# Altium footprint library MGJ3T12.PcbLib: 1 footprints
Each footprint in its own frame and in the unit in brackets; x right, y up, seen from the top. Pads: shape width x height; smd on the part's side, far side on the other; paste and mask are expansions set on the pad; w line width, h text height; cw(c..) or ccw(c..) is an arc to the next point about the centre after c.
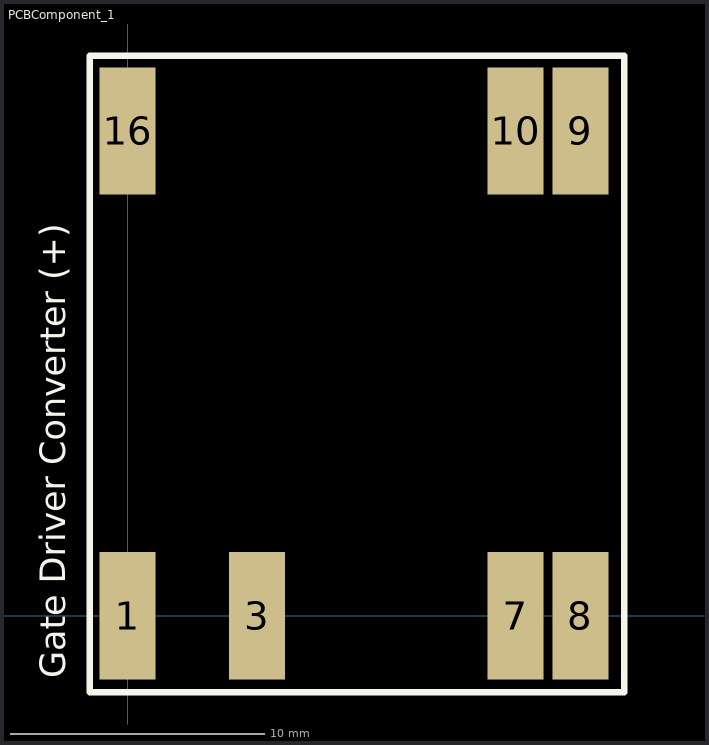
[diagram p0: the footprint, top view; thin cyan lines are the x and y axes]

## PCBComponent_1 [mm]
pads (7):
  rect 2.2x5 smd: 1(0,0) 3(5.08,0) 7(15.24,0) 8(17.78,0) 9(17.78,19.05) 10(15.24,19.05) 16(0,19.05)
Top Overlay:
  lines w0.254: -1.5,-3 -1.5,22 19.5,22 19.5,-3 -1.5,-3
  text "Gate Driver Converter (+)" at -2.454,-2.446 h1